# EAGLE library part 7508111323 (library WE-OLTI)
WE-OLTI Offline Flyback Transformers Characteristics Nominal input voltage: 85–265 VAC (120–375 VDC) Small size Low leakage inductance Multiple-output options Operating temperature: −40 °C to +125 °C Isolation Voltage: 2 kVAC to 5 kVAC Options for fixed frequency or quasi-resonant mode operation Most products meet reinforced insulation Applications Industrial controls USB chargers Utility metering devices Process controls Factory automation Security systems Garage door opener auxiliary supplies Home appliances Especially designed for several ICs from Texas Instruments <https://www.we-online.com/components/media/o814034v209%20UtOLTI%20Group%20CGI.jpg> Details see: www.we-online.com/en/components/products/WE-OLTI <www.we-online.com/catalog/WE-OLTI/?utm_source=eagle_model&utm_medium=description_link&utm_campaign=eisos_eagle> Created by Ella Wu 2025-02-06 2025 (C) Wurth Elektronik
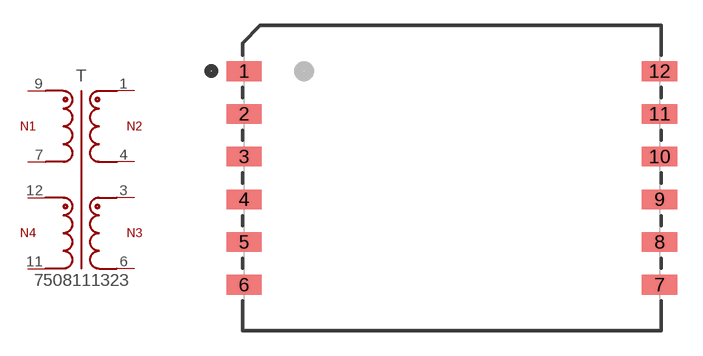
[diagram p0: symbol with the pads of WE-OLTI_EE16/8/5_L17.78W26.9H13.8; footprint WE-OLTI_EE16/8/5_L17.78W26.9H13.8]

Designator prefix T

## 7508111323 (DATASHEET-URL: https://www.we-online.com/redexpert/spec/7508111323?ae; FSWITCH: 50 - 102kHz; HEIGHT: 13.8mm; IOUT1: 1000mA; ISAT: 0.5A; L: 2000uH; LENGTH: 17.78mm; MOUNT: SMT; N: 8:1:1:1; PART-NUMBER: 7508111323; SIZE: EE16/8/5; VALUE: 2000uH; VAUX: 12V; VIN: 85 - 265 V (AC); VOUT1: 12V; VT: 625V(AC); WIDTH: 26.9mm)  [WE-OLTI_EE16/8/5_L17.78W26.9H13.8]
1  1  pas
3  3  pas
4  4  pas
6  6  pas
7  7  pas
9  9  pas
11  11  pas
12  12  pas

## Footprint WE-OLTI_EE16/8/5_L17.78W26.9H13.8 (pad centres in mm)
WE-OLTI Offline Flyback Transformers Size: EE16/8/5,SMT,12pins LXWXH=17.78X26.9X13.8mm Bobbin: 070-5642
smd 2.1 x 1.17: 1 -12.36,6.35; 2 -12.36,3.81; 3 -12.36,1.27; 4 -12.36,-1.27; 5 -12.36,-3.81; 6 -12.36,-6.35; 7 12.36,-6.35; 8 12.36,-3.81; 9 12.36,-1.27; 10 12.36,1.27; 11 12.36,3.81; 12 12.36,6.35